# Altium footprint library TQFN16.PcbLib: 1 footprints
Each footprint in its own frame and in the unit in brackets; x right, y up, seen from the top. Pads: shape width x height; smd on the part's side, far side on the other; paste and mask are expansions set on the pad; w line width, h text height; cw(c..) or ccw(c..) is an arc to the next point about the centre after c.
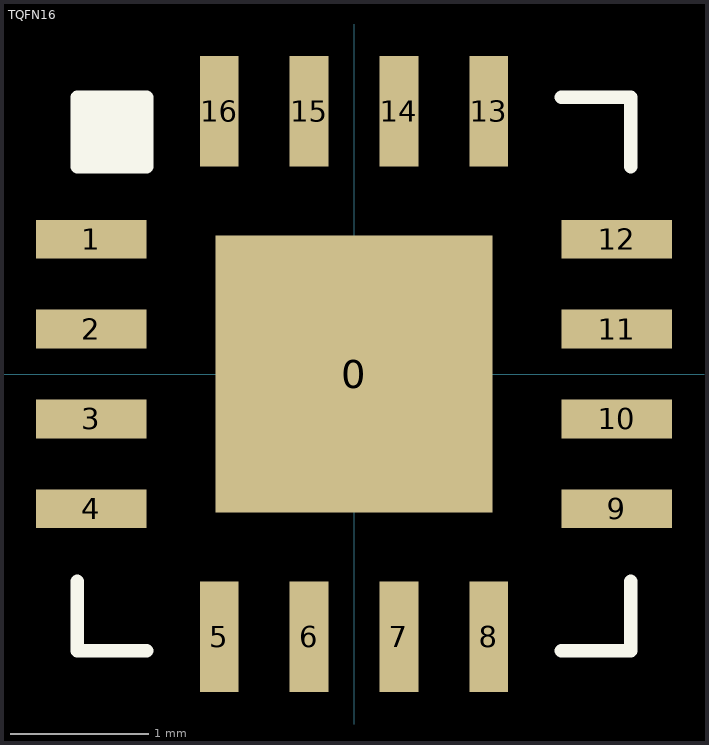
[diagram p0: the footprint, top view; thin cyan lines are the x and y axes]

## TQFN16 [mm]
pads (17):
  rect 2x2 smd paste-2: 0(0,0)
  rect 0.8x0.28 smd: 1(-1.9,0.975) 2(-1.9,0.325) 3(-1.9,-0.325) 4(-1.9,-0.975) 9(1.9,-0.975) 10(1.9,-0.325) 11(1.9,0.325) 12(1.9,0.975)
  rect 0.28x0.8 smd: 5(-0.975,-1.9) 6(-0.325,-1.9) 7(0.325,-1.9) 8(0.975,-1.9) 13(0.975,1.9) 14(0.325,1.9) 15(-0.325,1.9) 16(-0.975,1.9)
Top Overlay:
  rectangle: -2,1.5 -1.5,2
  lines w0.1: -2,-1.5 -2,-2 -1.5,-2 ; 1.5,-2 2,-2 2,-1.5 ; 1.5,2 2,2 2,1.5 ; -2,1.5 -1.5,1.5 -1.5,2 -2,2 -2,1.5
Top Paste:
  rectangle: -0.75,0 0,0.75
  rectangle: -0.75,-0.75 0.75,0
  rectangle: 0,-0.75 0.75,0.75
3D body: height 0.85, standoff 0, extent -2.001,-2.001 2.001,2.001